# EAGLE library part ATMEGA128 (library elements_cs2016)
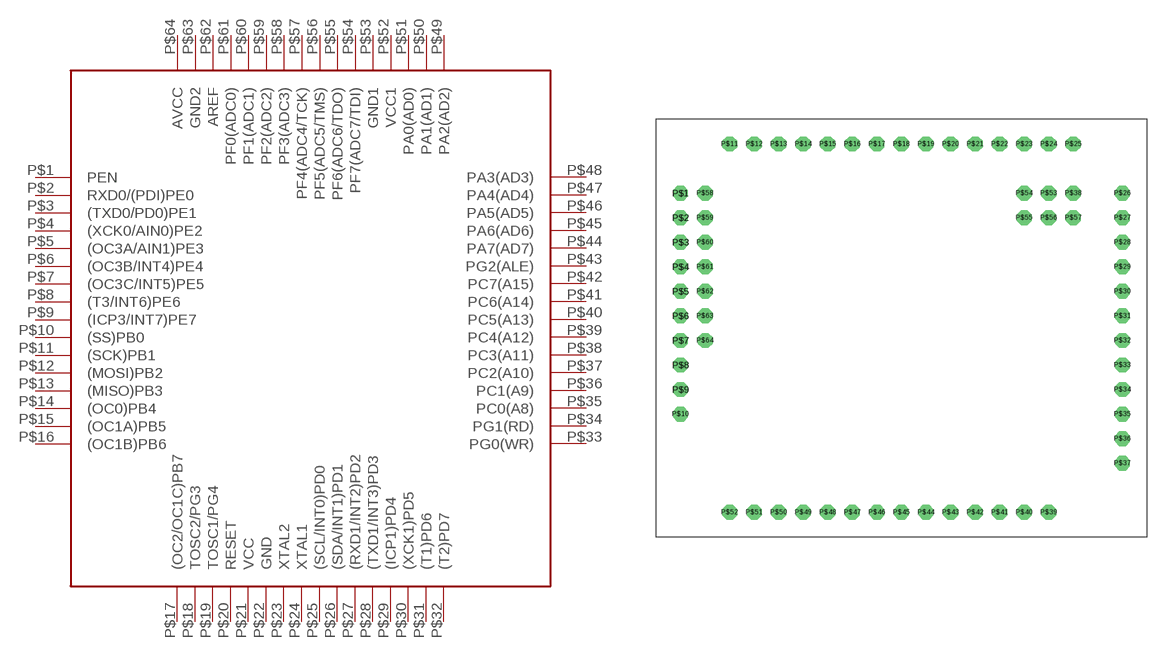
[diagram p5: symbol with the pads of ATMEGA128; footprint ATMEGA128]

Designator prefix -

## ATMEGA128  [ATMEGA128]
P$1  PEN
P$2  RXD0/(PDI)PE0
P$3  (TXD0/PD0)PE1
P$4  (XCK0/AIN0)PE2
P$5  (OC3A/AIN1)PE3
P$6  (OC3B/INT4)PE4
P$7  (OC3C/INT5)PE5
P$8  (T3/INT6)PE6
P$9  (ICP3/INT7)PE7
P$10  (SS)PB0
P$11  (SCK)PB1
P$12  (MOSI)PB2
P$13  (MISO)PB3
P$14  (OC0)PB4
P$15  (OC1A)PB5
P$16  (OC1B)PB6
P$17  (OC2/OC1C)PB7
P$18  TOSC2/PG3
P$19  TOSC1/PG4
P$20  RESET
P$21  VCC
P$22  GND
P$23  XTAL2
P$24  XTAL1
P$25  (SCL/INT0)PD0
P$26  (SDA/INT1)PD1
P$27  (RXD1/INT2)PD2
P$28  (TXD1/INT3)PD3
P$29  (ICP1)PD4
P$30  (XCK1)PD5
P$31  (T1)PD6
P$32  (T2)PD7
P$33  PG0(WR)
P$34  PG1(RD)
P$35  PC0(A8)
P$36  PC1(A9)
P$37  PC2(A10)
P$38  PC3(A11)
P$39  PC4(A12)
P$40  PC5(A13)
P$41  PC6(A14)
P$42  PC7(A15)
P$43  PG2(ALE)
P$44  PA7(AD7)
P$45  PA6(AD6)
P$46  PA5(AD5)
P$47  PA4(AD4)
P$48  PA3(AD3)
P$49  PA2(AD2)
P$50  PA1(AD1)
P$51  PA0(AD0)
P$52  VCC1
P$53  GND1
P$54  PF7(ADC7/TDI)
P$55  PF6(ADC6/TDO)
P$56  PF5(ADC5/TMS)
P$57  PF4(ADC4/TCK)
P$58  PF3(ADC3)
P$59  PF2(ADC2)
P$60  PF1(ADC1)
P$61  PF0(ADC0)
P$62  AREF
P$63  GND2
P$64  AVCC

## Footprint ATMEGA128 (pad centres in mm)
drill 1.021 octagon: P$1 0,0; P$2 0,-2.54; P$3 0,-5.08; P$4 0,-7.62; P$5 0,-10.16; P$6 0,-12.7; P$7 0,-15.24; P$8 0,-17.78; P$9 0,-20.32; P$10 0,-22.86; P$11 5.08,5.08; P$12 7.62,5.08; P$13 10.16,5.08; P$14 12.7,5.08; P$15 15.24,5.08; P$16 17.78,5.08; P$17 20.32,5.08; P$18 22.86,5.08; P$19 25.4,5.08; P$20 27.94,5.08; P$21 30.48,5.08; P$22 33.02,5.08; P$23 35.56,5.08; P$24 38.1,5.08; P$25 40.64,5.08; P$26 45.72,0; P$27 45.72,-2.54; P$28 45.72,-5.08; P$29 45.72,-7.62; P$30 45.72,-10.16; P$31 45.72,-12.7; P$32 45.72,-15.24; P$33 45.72,-17.78; P$34 45.72,-20.32; P$35 45.72,-22.86; P$36 45.72,-25.4; P$37 45.72,-27.94; P$38 40.64,0; P$39 38.1,-33.02; P$40 35.56,-33.02; P$41 33.02,-33.02; P$42 30.48,-33.02; P$43 27.94,-33.02; P$44 25.4,-33.02; P$45 22.86,-33.02; P$46 20.32,-33.02; P$47 17.78,-33.02; P$48 15.24,-33.02; P$49 12.7,-33.02; P$50 10.16,-33.02; P$51 7.62,-33.02; P$52 5.08,-33.02; P$53 38.1,0; P$54 35.56,0; P$55 35.56,-2.54; P$56 38.1,-2.54; P$57 40.64,-2.54; P$58 2.54,0; P$59 2.54,-2.54; P$60 2.54,-5.08; P$61 2.54,-7.62; P$62 2.54,-10.16; P$63 2.54,-12.7; P$64 2.54,-15.24